# Altium schematic symbol library LM7705MM_NOPB.SchLib: 1 symbol
Pins are listed as number, name and electrical type; pins without a type are passive.

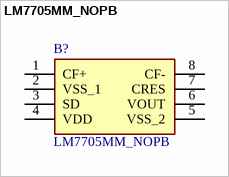
[diagram p0: symbol LM7705MM_NOPB]

## LM7705MM_NOPB
designator B?
Low Noise Negative Bias Generator; Manufacturer_Name: Texas Instruments; Manufacturer_Part_Number: LM7705MM/NOPB; Geometry.Height: 1.1mm; Mouser Part Number: 926-LM7705MM/NOPB; Mouser Price/Stock: https://www.mouser.co.uk/ProductDetail/Texas-Instruments/LM7705MM-NOPB?qs=QbsRYf82W3EUoG7CCLtS5A%3D%3D; Datasheet Link: http://www.ti.com/lit/gpn/LM7705
footprint SOP65P490X110-8N
pins: 1 CF+, 2 VSS_1, 3 SD, 4 VDD, 5 VSS_2, 6 VOUT, 7 CRES, 8 CF-